# EAGLE library part AS1105 (library CLK_IC)
literally just the 7-segment led driver as1105
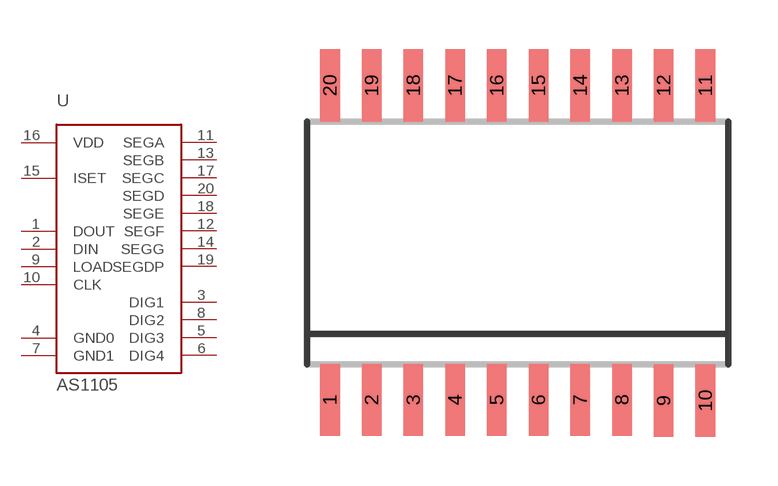
[diagram p0: symbol with the pads of SOIC20R; footprint SOIC20R]

Designator prefix -

## AS1105  [SOIC20R]
1  DOUT  out
2  DIN  in
3  DIG1  in
4  GND0  pwr
5  DIG3  in
6  DIG4  in
7  GND1  pwr
8  DIG2  in
9  LOAD  in
10  CLK  in
11  SEGA  out
12  SEGF  out
13  SEGB  out
14  SEGG  out
15  ISET  in
16  VDD  pwr
17  SEGC  out
18  SEGE  out
19  SEGDP  out
20  SEGD  out

## Footprint SOIC20R (pad centres in mm)
20-LeadStandard Small Outline Package SOIC Wide Body (R-20) Source: http://www.analog.com/static/imported-files/data_sheets/AD811.pdf
smd 0.6 x 2.2: 1 -5.715,-4.775; 2 -4.445,-4.775; 3 -3.175,-4.775; 4 -1.905,-4.775; 5 -0.635,-4.775; 6 0.635,-4.775; 7 1.905,-4.775; 8 3.175,-4.775; 9 4.445,-4.8; 10 5.715,-4.8; 11 5.715,4.8; 12 4.445,4.8; 13 3.175,4.8; 14 1.905,4.8; 15 0.635,4.8; 16 -0.635,4.8; 17 -1.905,4.8; 18 -3.175,4.8; 19 -4.445,4.8; 20 -5.715,4.8